# Altium footprint library SOIC127P1034X264-28N.PcbLib: 1 footprints
Each footprint in its own frame and in the unit in brackets; x right, y up, seen from the top. Pads: shape width x height; smd on the part's side, far side on the other; paste and mask are expansions set on the pad; w line width, h text height; cw(c..) or ccw(c..) is an arc to the next point about the centre after c.
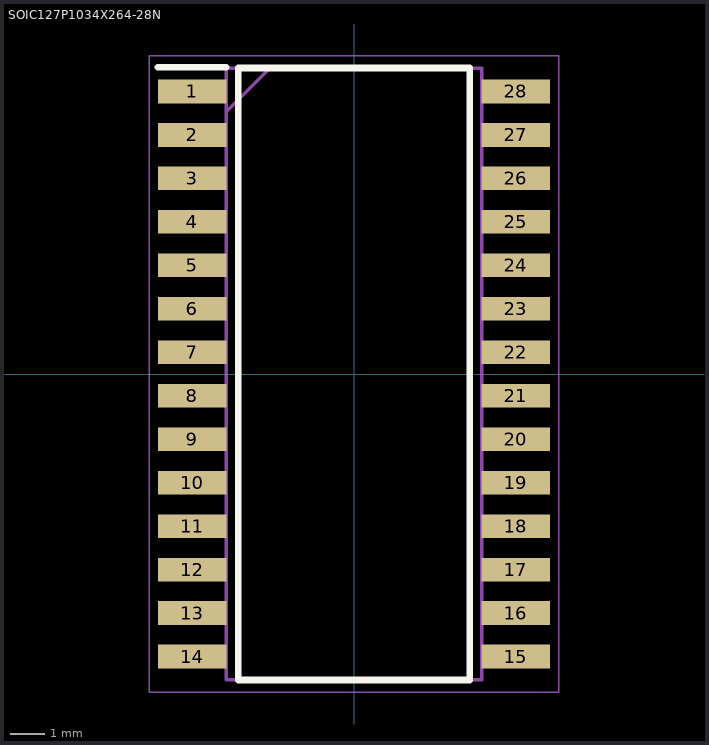
[diagram p0: the footprint, top view; thin cyan lines are the x and y axes]

## SOIC127P1034X264-28N [mm]
pads (28):
  rect 1.998x0.7 smd: 1(-4.726,8.255) 2(-4.726,6.985) 3(-4.726,5.715) 4(-4.726,4.445) 5(-4.726,3.175) 6(-4.726,1.905) 7(-4.726,0.635) 8(-4.726,-0.635) 9(-4.726,-1.905) 10(-4.726,-3.175) 11(-4.726,-4.445) 12(-4.726,-5.715) 13(-4.726,-6.985) 14(-4.726,-8.255) 15(4.726,-8.255) 16(4.726,-6.985) 17(4.726,-5.715) 18(4.726,-4.445) 19(4.726,-3.175) 20(4.726,-1.905) 21(4.726,-0.635) 22(4.726,0.635) 23(4.726,1.905) 24(4.726,3.175) 25(4.726,4.445) 26(4.726,5.715) 27(4.726,6.985) 28(4.726,8.255)
Top Overlay:
  lines w0.2: -5.725,8.955 -3.728,8.955 ; -3.378,-8.932 3.378,-8.932 3.378,8.932 -3.378,8.932 -3.378,-8.932
Mechanical 15:
  lines w0.1: -3.728,7.662 -2.458,8.932 ; -3.728,-8.932 3.728,-8.932 3.728,8.932 -3.728,8.932 -3.728,-8.932
Mechanical 20:
  lines w0.05: -5.975,-9.29 5.975,-9.29 5.975,9.29 -5.975,9.29 -5.975,-9.29
3D body "PIC18F258-I_SO.stp": height 5.8, standoff -4.65, extent -10,-3.376 10,3.376